# Altium footprint library MLX_87833.PcbLib: 6 footprints
Each footprint in its own frame and in the unit in brackets; x right, y up, seen from the top. Pads: shape width x height; smd on the part's side, far side on the other; paste and mask are expansions set on the pad; w line width, h text height; cw(c..) or ccw(c..) is an arc to the next point about the centre after c.
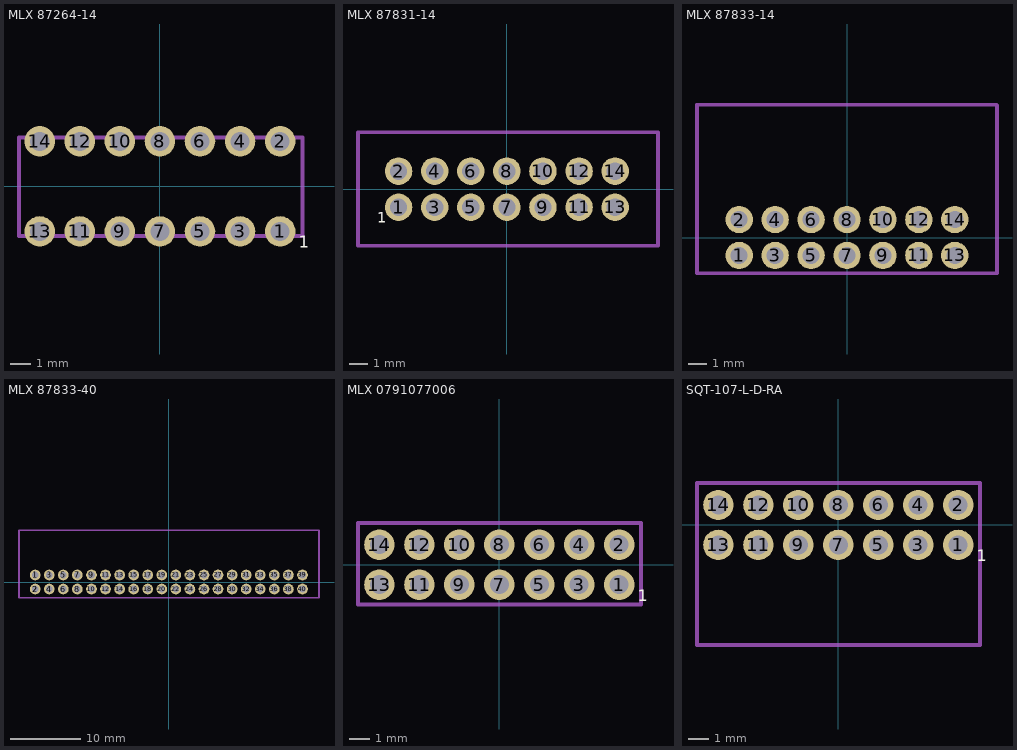
[diagram p0: the footprints below, top view; thin cyan lines are the x and y axes]

## MLX 87264-14 [mm] "Right Angle JTAG Female connector"
height 4
pads (14):
  round 1.524 hole 0.95: 1(6,-2.25) 2(6,2.25) 3(4,-2.25) 4(4,2.25) 5(2,-2.25) 6(2,2.25) 7(0,-2.25) 8(0,2.25) 9(-2,-2.25) 10(-2,2.25) 11(-4,-2.25) 12(-4,2.25) 13(-6,-2.25) 14(-6,2.25)
Top Overlay:
  text "1" at 6.925,-3.275 h1.02
Mechanical 13:
  lines w0.203: -7.036,-2.475 7.112,-2.475 7.112,2.438 -7.036,2.438 -7.036,-2.475
3D body: height 4.16, standoff -2.39, extent -7.088,-2.475 7.112,2.525

## MLX 87831-14 [mm] "Vertical Male JTAG connector"
height 6.4
pads (14):
  round 1.524 hole 0.95: 1(-6,-1) 2(-6,1) 3(-4,-1) 4(-4,1) 5(-2,-1) 6(-2,1) 7(0,-1) 8(0,1) 9(2,-1) 10(2,1) 11(4,-1) 12(4,1) 13(6,-1) 14(6,1)
Top Overlay:
  text "1" at -7.175,-2.05 h1.02
Mechanical 13:
  lines w0.203: -8.25,-3.125 -8.25,3.15 8.375,3.15 8.375,-3.125 -8.25,-3.125
3D body: height 6.43, standoff -2.47, extent -8.275,-3.1 8.375,3.2

## MLX 87833-14 [mm] "Right Angle JTAG connector"
height 6.3
pads (14):
  round 1.524 hole 0.95: 1(-6,-1) 2(-6,1) 3(-4,-1) 4(-4,1) 5(-2,-1) 6(-2,1) 7(0,-1) 8(0,1) 9(2,-1) 10(2,1) 11(4,-1) 12(4,1) 13(6,-1) 14(6,1)
Mechanical 13:
  lines w0.2: -8.35,7.4 8.3,7.4 8.35,7.35 8.35,-2 -8.35,-2 -8.35,7.4 ; -8.35,7.4 -8.35,7.4
3D body: height 6.32, standoff -2.13, extent -8.35,-1.25 8.3,7.4

## MLX 87833-40 [mm] "Right Angle Connector - ribbon cable"
height 6.3
pads (41):
  round 1.524 hole 0.95: 1(-19,1) 2(-19,-1) 2(-19,-1) 3(-17,1) 4(-17,-1) 5(-15,1) 6(-15,-1) 7(-13,1) 8(-13,-1) 9(-11,1) 10(-11,-1) 11(-9,1) 12(-9,-1) 13(-7,1) 14(-7,-1) 15(-5,1) 16(-5,-1) 17(-3,1) 18(-3,-1) 19(-1,1) 20(-1,-1) 21(1,1) 22(1,-1) 23(3,1) 24(3,-1) 25(5,1) 26(5,-1) 27(7,1) 28(7,-1) 29(9,1) 30(9,-1) 31(11,1) 32(11,-1) 33(13,1) 34(13,-1) 35(15,1) 36(15,-1) 37(17,1) 38(17,-1) 39(19,1) 40(19,-1)
Mechanical 13:
  lines w0.254: -21.3,7.375 21.35,7.375 21.35,-2.25 ; -21.3,7.375 -21.3,7.375 ; -21.3,7.375 -21.3,-2.25 21.35,-2.25 ; 21.35,-2.25 21.35,-2.25
3D body: height 6.32, standoff -2.13, extent -21.3,-1.275 21.35,7.375

## MLX 0791077006 [mm] "Vertical female JTAG connector"
height 6.3
pads (14):
  round 1.524 hole 0.95: 1(6,-1) 2(6,1) 3(4,-1) 4(4,1) 5(2,-1) 6(2,1) 7(0,-1) 8(0,1) 9(-2,-1) 10(-2,1) 11(-4,-1) 12(-4,1) 13(-6,-1) 14(-6,1)
Top Overlay:
  text "1" at 6.925,-2.025 h1.02
Mechanical 13:
  lines w0.203: -7.07,-2 7.1,-2 7.1,2.095 -7.07,2.095 -7.07,-2
3D body: height 3.81, standoff 2.03, extent -0.725,-2.875 0.75,-2
3D body: height 4.13, standoff -3.31, extent -7.07,-2.095 7.12,2.095

## SQT-107-L-D-RA [mm] "RA female JTAG connector"
height 4
pads (14):
  round 1.524 hole 0.95: 1(6,-1) 2(6,1) 3(4,-1) 4(4,1) 5(2,-1) 6(2,1) 7(0,-1) 8(0,1) 9(-2,-1) 10(-2,1) 11(-4,-1) 12(-4,1) 13(-6,-1) 14(-6,1)
Top Overlay:
  text "1" at 6.925,-2.025 h1.02
Mechanical 13:
  lines w0.203: -7.07,-6 7.1,-6 7.1,2.095 -7.07,2.095 -7.07,-6
3D body: height 1.02, standoff 0, extent -0.762,-6.862 0.713,-5.987
3D body: height 4.25, standoff 0.06, extent -7.095,-5.995 7.095,1.445